# Altium footprint library PCB - LEADED - SOP - IXYS SOP-4 CPC1390GR.PcbLib: 1 footprints
Each footprint in its own frame and in the unit in brackets; x right, y up, seen from the top. Pads: shape width x height; smd on the part's side, far side on the other; paste and mask are expansions set on the pad; w line width, h text height; cw(c..) or ccw(c..) is an arc to the next point about the centre after c.
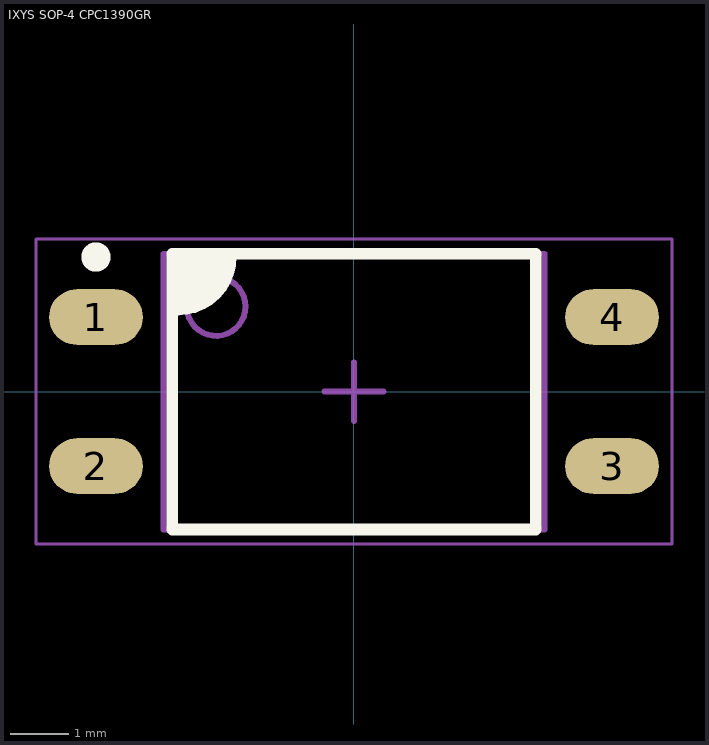
[diagram p0: the footprint, top view; thin cyan lines are the x and y axes]

## IXYS SOP-4 CPC1390GR [mm] "SOP, 4-Leads, Body 4.64x6.41mm, Pitch 2.54mm, IPC Medium Density"
height 3.35
pads (4):
  oval 1.6x0.95 smd: 1(-4.4,1.27) 2(-4.4,-1.27) 3(4.4,-1.27) 4(4.4,1.27)
Top Overlay:
  circle w0.25: c-4.4,2.295 r0.125
  region: -3.1,2.35 -2.15,2.35 -2.14,2.35 -2.122,2.342 -2.108,2.328 -2.1,2.31 -2.1,2.3 -2.1,2.211 -2.135,2.037 -2.202,1.874 -2.301,1.726 -2.426,1.601 -2.574,1.502 -2.737,1.435 -2.911,1.4 -3,1.4
  lines w0.2: -3,1.4 ccw(c-3,2.3) -2.1,2.3 ; -3.1,-2.35 -3.1,2.35 3.1,2.35 3.1,-2.35 -3.1,-2.35
Mechanical 13:
  circle w0.1: c-2.35,1.45 r0.5
  lines w0.1: -3.25,-2.35 -3.25,2.35 3.25,2.35 3.25,-2.35 -3.25,-2.35
Mechanical 15:
  lines w0.05: -5.425,-2.6 -5.425,2.6 5.425,2.6 5.425,-2.6 -5.425,-2.6
  lines w0.1: -0.5,0 0.5,0 ; 0,-0.5 0,0.5
3D body "IXYS SOP-4 CPC1390GR.step": height 3.35, standoff 0, extent -4.756,-2.35 4.756,2.35